# EAGLE library part APR9600 (library IC)
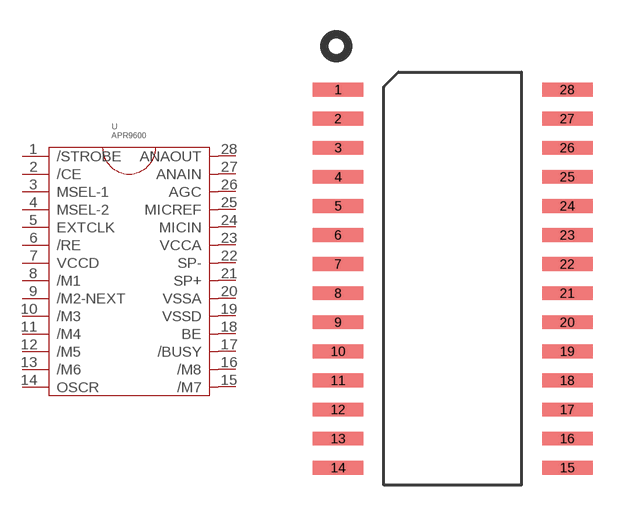
[diagram p12: symbol with the pads of SOP28; footprint SOP28]

Designator prefix U

## APR9600-SOP28  [SOP28]
1  /STROBE
2  /CE  in
3  MSEL-1  in
4  MSEL-2  in
5  EXTCLK  in
6  /RE  in
7  VCCD  sup
8  /M1
9  /M2-NEXT
10  /M3
11  /M4
12  /M5
13  /M6
14  OSCR  in
15  /M7
16  /M8
17  /BUSY
18  BE  in
19  VSSD  sup
20  VSSA  sup
21  SP+  out
22  SP-  out
23  VCCA  sup
24  MICIN  in
25  MICREF  out
26  AGC
27  ANAIN  in
28  ANAOUT  out

## Footprint SOP28 (pad centres in mm)
smd 2.2 x 0.6: 1 -5,7.62; 2 -5,6.35; 3 -5,5.08; 4 -5,3.81; 5 -5,2.54; 6 -5,1.27; 7 -5,0; 8 -5,-1.27; 9 -5,-2.54; 10 -5,-3.81; 11 -5,-5.08; 12 -5,-6.35; 13 -5,-7.62; 14 -5,-8.89; 15 5,-8.89; 16 5,-7.62; 17 5,-6.35; 18 5,-5.08; 19 5,-3.81; 20 5,-2.54; 21 5,-1.27; 22 5,0; 23 5,1.27; 24 5,2.54; 25 5,3.81; 26 5,5.08; 27 5,6.35; 28 5,7.62